# EAGLE library part FLYBACK-3_OUTPUTS (library ELL-i-Transformers)
Flyback transformer with 3 output windings
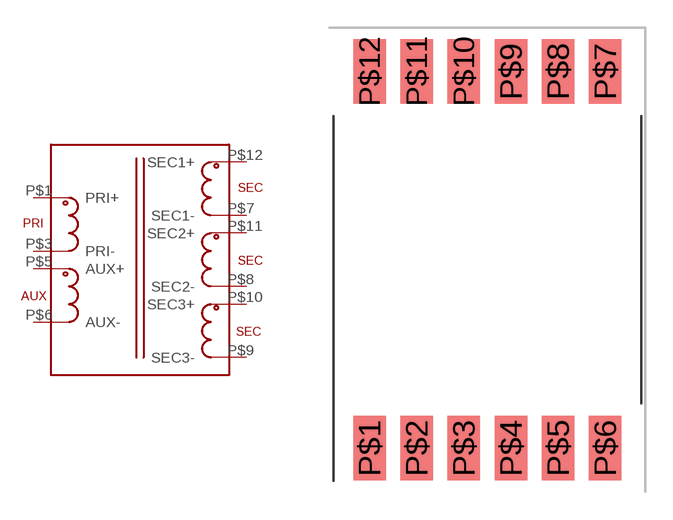
[diagram p2: symbol with the pads of WE_749119350; footprint WE_749119350]

Designator prefix -

## FLYBACK-3_OUTPUTS_749119350  [WE_749119350]
P$1  PRI+
P$3  PRI-
P$5  AUX+
P$6  AUX-
P$7  SEC1-
P$8  SEC2-
P$9  SEC3-
P$10  SEC3+
P$11  SEC2+
P$12  SEC1+

## Footprint WE_749119350 (pad centres in mm)
Wurth 749119350 footprint, IPC-7351 compliant Pads are as manufacturer recommends. Footprint has 1 mm placement courtyard because of it's height, to ease hand soldering of neighbouring components. Silkscreen is on tPlace layer and has 0.15 mm width. Assembly picture is on tDocu layer. Reference is on tNames and tDocu layers. Primary inductance is 120 uH, isolation voltage is 1,5 kV AC between primary and secondary. Datasheet <http://docs-europe.electrocomponents.com/webdocs/079f/0900766b8079f831.pdf>
smd 1.75 x 3.45: P$1 -6.35,-10.15; P$2 -3.81,-10.15; P$3 -1.27,-10.15; P$4 1.27,-10.15; P$5 3.81,-10.15; P$6 6.35,-10.15; P$7 6.35,10.15; P$8 3.81,10.15; P$9 1.27,10.15; P$10 -1.27,10.15; P$11 -3.81,10.15; P$12 -6.35,10.15